# Altium footprint library SPT10.PcbLib: 22 footprints (part 1 of 2)
Each footprint in its own frame and in the unit in brackets; x right, y up, seen from the top. Pads: shape width x height; smd on the part's side, far side on the other; paste and mask are expansions set on the pad; w line width, h text height; cw(c..) or ccw(c..) is an arc to the next point about the centre after c.
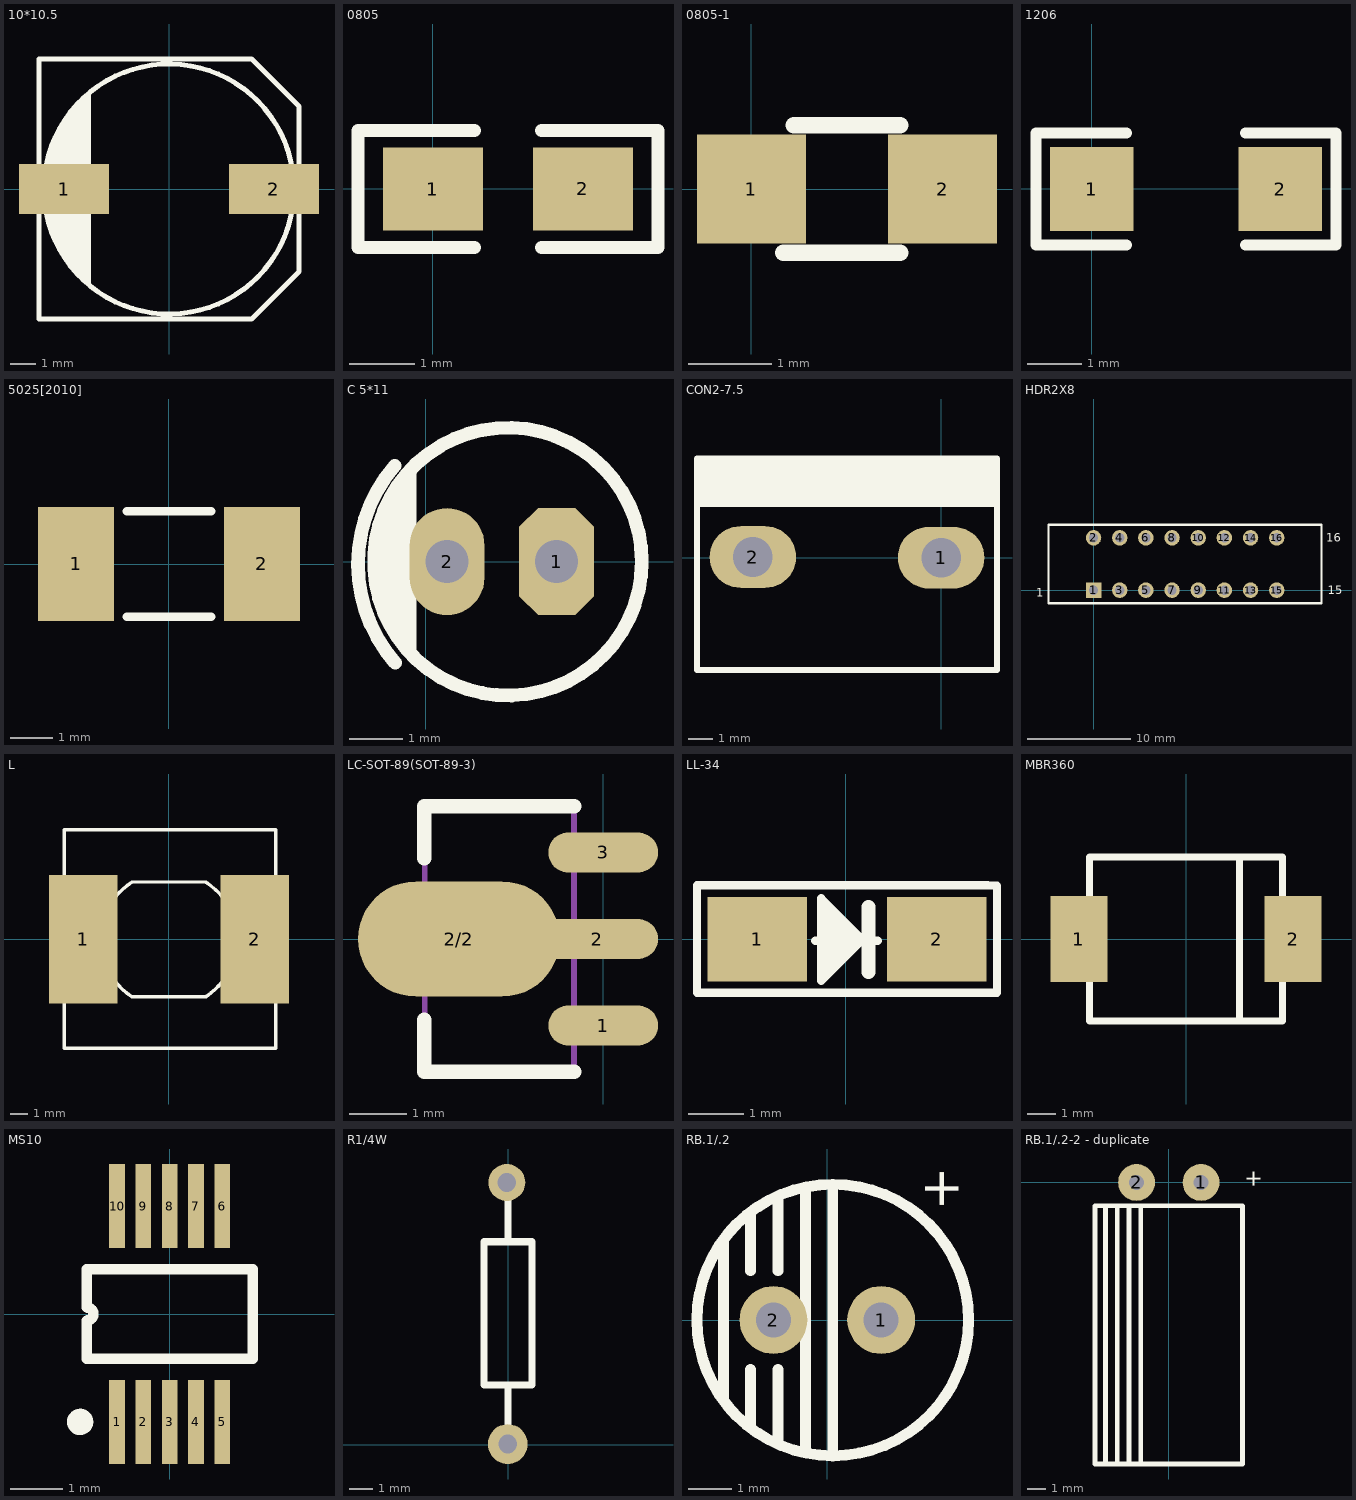
[diagram p0: the footprints below, top view; thin cyan lines are the x and y axes]

## 10*10.5 [mm]
pads (2):
  rect 3.6x2 smd: 1(-4.2,0) 2(4.2,0)
Top Overlay:
  circle w0.2: c0,0 r5
  region: -3.175,3.81 -4.147,2.855 -4.282,2.652 -4.33,2.413 -4.324,2.419 -4.541,2.155 -4.702,1.854 -4.801,1.527 -4.834,1.187 -4.826,1.187 -4.832,1.149 -4.928,1.006 -4.961,0.836 -4.953,0.836 -4.96,-0.911 -4.931,-1.137 -4.843,-1.348 -4.704,-1.529 -4.706,-1.524 -4.677,-1.825 -4.589,-2.114 -4.447,-2.38 -4.255,-2.613 -4.25,-2.608 -4.197,-2.667 -4.173,-2.787 -4.105,-2.888 -4.101,-2.884 -3.175,-3.81
  lines w0.1: -3.175,-3.81 cw(c-0.254,0) -3.175,3.81 -3.175,-3.81
  lines w0.2: -5.207,-5.207 3.302,-5.207 5.207,-3.302 5.207,3.302 3.302,5.207 -5.207,5.207 -5.207,-5.207

## 0805 [mil]
pads (2):
  rect 60x50 smd: 1(-0.01,-0.01) 2(89.99,0.03)
Top Overlay:
  lines w7.87: 25,-35 -45,-35 -45,35 25,35 ; 65,-35 135,-35 135,35 65,35

## 0805-1 [mm]
pads (2):
  rect 1.3x1.3 smd: 1(0,0) 2(2.286,0)
Top Overlay:
  lines w0.2: 0.381,-0.762 1.778,-0.762 ; 0.508,0.762 1.778,0.762

## 1206 [mil]
pads (2):
  rect 60x60 smd: 1(0,0) 2(135,0)
Top Overlay:
  lines w7.87: 25,-40 -40,-40 -40,40 25,40 ; 110,-40 175,-40 175,40 110,40

## 5025[2010] [mm]
pads (2):
  rect 1.8x2.7 smd: 1(-2.2,0) 2(2.2,0)
Top Overlay:
  lines w0.2: -1,-1.25 1,-1.25 ; -1,1.25 1,1.25

## C 5*11 [mm]
pads (2):
  oct 1.4x2 hole 0.8: 1(2.446,0)
  oval 1.4x2 hole 0.8: 2(0.4,0)
Top Overlay:
  circle w0.254: c1.536,0 r2.5
  lines w0.254: -0.925,-0.275 -0.725,1 -0.725,-0.85 -0.525,-1.4 -0.5,1.325 -0.3,1.675 -0.3,-1.625 ; -0.578,1.789 ccw(c1.538,-0.045) -0.57,-1.889

## CON2-7.5 [mm]
pads (2):
  oval 3.5x2.5 hole 1.6: 1(0,0) 2(-7.62,0.025)
Top Overlay:
  region: 2.194,4.032 -9.871,4.032 -9.871,2.203 2.194,2.203
  lines w0.254: -9.881,-2.934 -9.881,2.616 ; -9.855,2.184 2.235,2.184 ; 2.261,0 2.261,4.013 ; 2.261,4.013 -9.881,4.013 -9.881,-4.547 2.261,-4.547 2.261,4.013

## HDR2X8 [mm]
pads (16):
  rect 1.5x1.5 hole 0.9: 1(0,0)
  round 1.5 hole 0.9: 2(0,5.08) 3(2.54,0) 4(2.54,5.08) 5(5.08,0) 6(5.08,5.08) 7(7.62,0) 8(7.62,5.08) 9(10.16,0) 10(10.16,5.08) 11(12.7,0) 12(12.7,5.08) 13(15.24,0) 14(15.24,5.08) 15(17.78,0) 16(17.78,5.08)
Top Overlay:
  lines w0.2: -4.36,-1.27 22.14,-1.27 22.14,6.35 -4.36,6.35 -4.36,-1.27
  text "1" at -5.588,-0.635 h0.8
  text "15" at 22.733,-0.381 h0.8
  text "16" at 22.606,4.699 h0.8

## L [mm]
pads (2):
  rect 4x7.5 smd: 1(-5,0) 2(5,0)
Top Overlay:
  lines w0.2: -6.1,-6.35 -6.1,6.4 6.225,6.4 6.225,-6.35 -6.1,-6.35 ; -2.188,-3.332 cw(c0.025,0) -2.162,3.35 2.142,3.35 cw(c-0.044,0) 2.169,-3.332 -2.188,-3.332

## LC-SOT-89(SOT-89-3) [mm]
pads (4):
  oval 1.9x0.7 smd: 1(0,-1.5) 3(0,1.5)
  oval 2.1x0.7 smd: 2(-0.1,0)
  oval 3.5x2 smd: 2/2(-2.5,0)
Top Overlay:
  lines w0.254: -3.1,-1.4 -3.1,-2.3 -0.5,-2.3 ; -3.1,1.4 -3.1,2.3 -0.5,2.3
Mechanical 16:
  lines w0.1: -3.095,-2.3 -3.095,2.3 -0.505,2.3 -0.505,-2.3 -3.095,-2.3

## LL-34 [mm]
pads (2):
  rect 1.8x1.524 smd: 1(-1.6,0) 2(1.65,0)
Top Overlay:
  lines w0.152: -0.55,-0.025 0.58,-0.025 ; -0.345,-0.62 -0.345,0.54 ; -0.278,-0.584 -0.278,0.516 ; -0.185,-0.425 -0.185,0.48 ; -0.102,-0.407 -0.102,0.323 ; -0.017,-0.302 -0.017,0.312 ; 0.075,-0.23 0.075,0.14 ; -2.69,-0.97 -2.568,-0.966 2.571,-0.966 2.74,-0.97 2.74,0.97 2.571,0.978 -2.568,0.978 -2.69,0.98 -2.69,-0.97 ; -0.445,-0.75 -0.445,0.74 0.315,-0.02 0.285,-0.02 -0.445,-0.75
  lines w0.254: 0.415,-0.59 0.415,0.58

## MBR360 [mil]
pads (2):
  rect 80x120 smd: 1(-150,0) 2(150,0)
Top Overlay:
  lines w10: 75,-115 75,115 ; -135,-115 -135,115 135,115 135,-115 -135,-115

## MS10 [mm]
pads (10):
  rect 0.3x1.6 smd: 1(-1,-2.05) 2(-0.5,-2.05) 3(0,-2.05) 4(0.5,-2.05) 5(1,-2.05) 6(1,2.05) 7(0.5,2.05) 8(0,2.05) 9(-0.5,2.05) 10(-1,2.05)
Top Overlay:
  circle w0.25: c-1.7,-2.05 r0.125
  lines w0.2: -1.575,-0.85 -1.575,-0.125 ccw(c-1.575,0) -1.575,0.125 -1.575,0.85 1.575,0.85 1.575,-0.85 -1.575,-0.85

## R1/4W [mm]
pads (2):
  round 1.575 hole 0.8: ""(-0.05,11.163)
  round 1.7 hole 0.8: ""(-0.01,0.023)
Top Overlay:
  lines w0.305: 0,0.383 0,2.54 ; 0,8.636 0,10.818 ; -1.016,2.54 -1.016,8.636 1.016,8.636 1.016,2.54 -1.016,2.54

## RB.1/.2 [mil]
pads (2):
  round 62 hole 32: 1(49.21,0) 2(-49.21,0)
Top Overlay:
  circle w10: c5,0 r124.02
  lines w10: -95,-70 -95,70 ; -70,-98 -70,-45 ; -70,45 -70,98 ; -45,-113 -45,-45 ; -45,45 -45,113 ; -20,-120 -20,120 ; 5,-123 5,123
  text "+" at 120,100 h35

## RB.1/.2-2 - duplicate [mm]
pads (2):
  round 2 hole 0.813: 1(1.75,0) 2(-1.75,0)
Top Overlay:
  lines w0.254: -3.429,-15.24 -3.429,-1.27 ; -2.794,-15.24 -2.794,-1.27 ; -2.159,-15.24 -2.159,-1.27 ; -1.524,-15.24 -1.524,-1.27 ; -4,-15.27 -4,-1.27 4,-1.27 4,-15.27 -4,-15.27
  text "+" at 4.976,-0.31 h0.89